# EAGLE library part AM26LV32EI* (library RoboJackets-ICs)
Differential Line Reciever
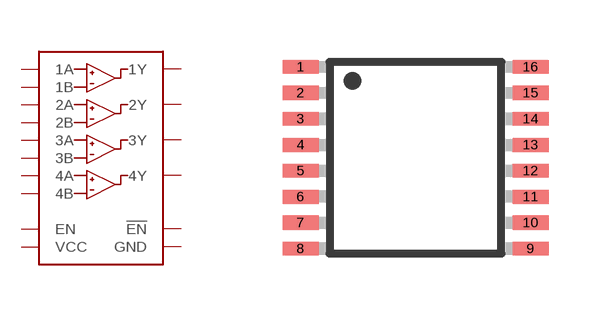
[diagram p20: symbol with the pads of TSSOP-16; footprint TSSOP-16]

Designator prefix -

## AM26LV32EIPWR  [TSSOP-16]
1  1B  in
2  1A  in
3  1Y  out
4  EN  in
5  2Y  out
6  2A  in
7  2B  in
8  GND  pwr
9  3B  in
10  3A  in
11  3Y  out
12  !EN  in
13  4Y  out
14  4A  in
15  4B  in
16  VCC  pwr

## Footprint TSSOP-16 (pad centres in mm)
16-Lead Thin Shrink Small Outline Package [TSSOP] (RU-16) Source: 8x ADG1408_1409.pdf
smd 0.9 x 0.35: 1 -2.875,2.275; 2 -2.875,1.625; 3 -2.875,0.975; 4 -2.875,0.325; 5 -2.875,-0.325; 6 -2.875,-0.975; 7 -2.875,-1.625; 8 -2.875,-2.275; 9 2.875,-2.275; 10 2.875,-1.625; 11 2.875,-0.975; 12 2.875,-0.325; 13 2.875,0.325; 14 2.875,0.975; 15 2.875,1.625; 16 2.875,2.275